# Altium footprint library PCB - CONNECTOR - MOLEX - MOLEX 0346950100.PcbLib: 1 footprints
Each footprint in its own frame and in the unit in brackets; x right, y up, seen from the top. Pads: shape width x height; smd on the part's side, far side on the other; paste and mask are expansions set on the pad; w line width, h text height; cw(c..) or ccw(c..) is an arc to the next point about the centre after c.
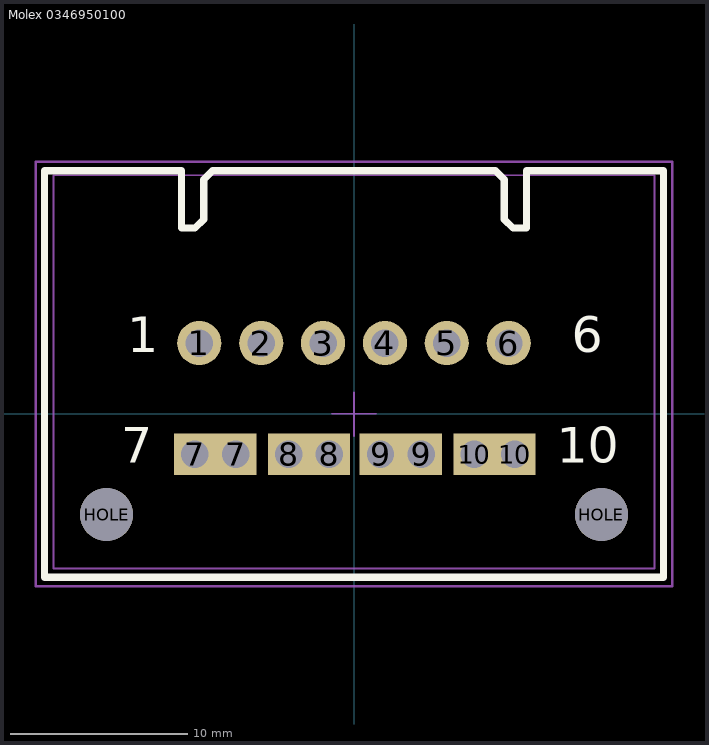
[diagram p0: the footprint, top view; thin cyan lines are the x and y axes]

## Molex 0346950100 [mm]
height 28
pads (16):
  round 2.5 hole 1.55 mask+0.15: 1(-8.75,4) 2(-5.25,4) 3(-1.75,4) 4(1.75,4) 5(5.25,4) 6(8.75,4)
  rect 2.35x2.35 hole 1.55 mask+0.15: 7(-9,-2.3) 7(-6.7,-2.3) 8(-3.7,-2.3) 8(-1.4,-2.3) 9(1.5,-2.3) 9(3.8,-2.3) 10(6.8,-2.3) 10(9.1,-2.3)
  round 3 hole 3 unplated mask+0.2: HOLE(-14,-5.7) HOLE(14,-5.7)
Top Overlay:
  lines w0.4: -17.5,-9.25 -17.5,13.75 -9.75,13.75 -9.75,10.5 -9,10.5 -8.5,11 -8.5,13.25 -8,13.75 -5.75,13.75 5.75,13.75 8,13.75 8.5,13.25 8.5,11 9,10.5 9.75,10.5 9.75,13.75 17.5,13.75 17.5,-9.25 -17.5,-9.25
  text "10" at 11.476,-2.766 h2.03
  text "7" at -13.177,-2.766 h2.03
  text "6" at 12.323,3.484 h2.03
  text "1" at -12.839,3.484 h2.03
Mechanical 13:
  lines w0.1: -17,-8.75 -17,13.5 17,13.5 17,-8.75 -17,-8.75
Mechanical 15 (Mech15):
  lines w0.1: -1.25,0 0,0 ; 0,-1.25 0,0 ; 0,1.2 0,0 ; 1.25,0 0,0
  lines w0.15: -18,-9.75 -18,14.25 18,14.25 18,-9.75 -18,-9.75
3D body "346950100.stp": height 28.9, standoff -2.48, extent -17.05,-8.8 17.05,13.4